# Altium schematic symbol library TPS62913.SchLib: 1 symbol
Pins are listed as number, name and electrical type; pins without a type are passive.

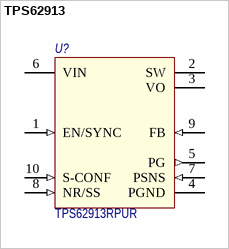
[diagram p0: symbol TPS62913]

## TPS62913
designator U?  Наименование: TPS62913RPUR  (hidden comment: TPS62913)
TPS62913 3-V to 17-V, 3-A Low Noise and Low Ripple Buck Converter; Потребление, Вт: 0.0; Назначение: Buck Converter; ComponentLink1Description: DataSheet; ComponentLink1URL: https://www.ti.com/lit/ds/symlink/tps62913.pdf?ts=1639989978788&ref_url=https%253A%252F%252Fwww.ti.com%252Fproduct%252FTPS62913
footprint RPU0010A (Texas Instrumnets VQFN-HR-10 Package)
pins: 1 EN/SYNC (in), 2 SW (power), 3 VO (power), 4 PGND (power), 5 PG (out), 6 VIN (power), 7 PSNS (in), 8 NR/SS (in), 9 FB (in), 10 S-CONF (in)